# Altium schematic symbol library LME49726.SchLib: 1 symbol
Pins are listed as number, name and electrical type; pins without a type are passive.

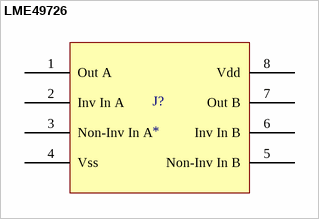
[diagram p0: symbol LME49726]

## LME49726
designator J?
LME49726
footprint LME49726
pins: 1 Out A, 2 Inv In A, 3 Non-Inv In A, 4 Vss, 5 Non-Inv In B, 6 Inv In B, 7 Out B, 8 Vdd